# EAGLE library part LM393AD (library LM393AD)
LM393ADG4, Dual Comparator Open Collector 1.3s 2-kanalers 3, 5, 9, 12, 15, 18, 24, 28V 8-Pin SOIC Source: Datasheet <http://www.ti.com/lit/ds/symlink/lm393a.pdf>
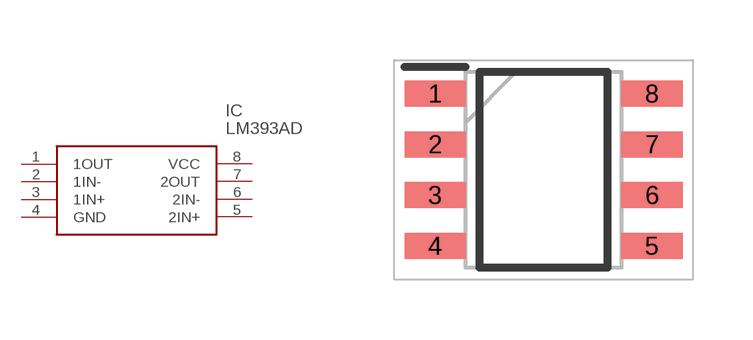
[diagram p0: symbol with the pads of SOIC127P600X175-8N; footprint SOIC127P600X175-8N]

Designator prefix IC

## LM393AD (Arrow_Part_Number: LM393AD; Arrow_Price-Stock: https://www.arrow.com/en/products/lm393ad/texas-instruments; Description: LM393ADG4, Dual Comparator Open Collector 1.3s 2-kanalers 3, 5, 9, 12, 15, 18, 24, 28V 8-Pin SOIC; Height: 1.75mm; Manufacturer_Name: Texas Instruments; Manufacturer_Part_Number: LM393AD; Mouser_Part_Number: 595-LM393AD; Mouser_Price-Stock: https://www.mouser.co.uk/ProductDetail/Texas-Instruments/LM393AD?qs=LfG3tU9ud8Dw2sg2xFhQ4Q%3D%3D)  [SOIC127P600X175-8N]
1  1OUT
2  1IN-
3  1IN+
4  GND
5  2IN+
6  2IN-
7  2OUT
8  VCC

## Footprint SOIC127P600X175-8N (pad centres in mm)
D0008A
smd 1.528 x 0.65: 1 -2.711,1.905; 2 -2.711,0.635; 3 -2.711,-0.635; 4 -2.711,-1.905; 5 2.711,-1.905; 6 2.711,-0.635; 7 2.711,0.635; 8 2.711,1.905